# Altium footprint library STB75NF75T4.PcbLib: 1 footprints
Each footprint in its own frame and in the unit in brackets; x right, y up, seen from the top. Pads: shape width x height; smd on the part's side, far side on the other; paste and mask are expansions set on the pad; w line width, h text height; cw(c..) or ccw(c..) is an arc to the next point about the centre after c.
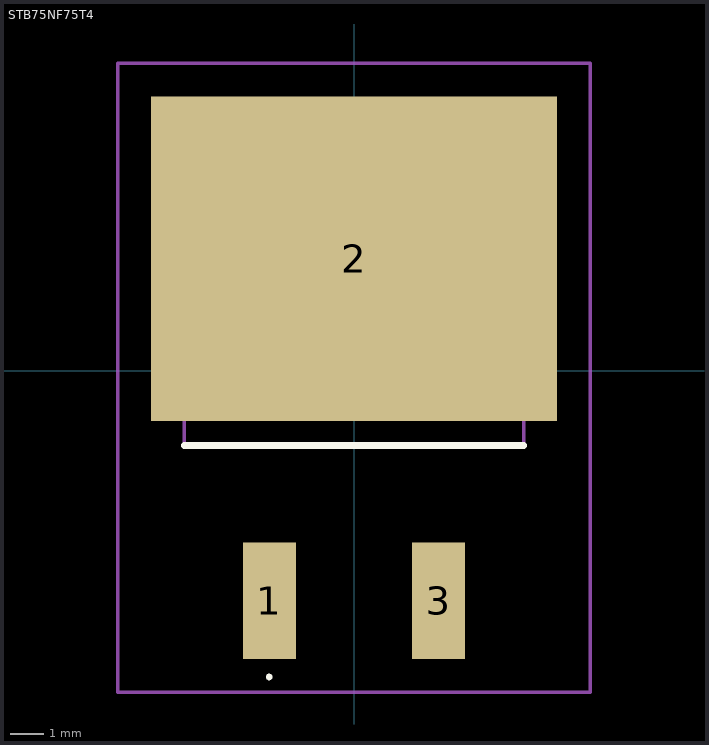
[diagram p0: the footprint, top view; thin cyan lines are the x and y axes]

## STB75NF75T4 [mm]
pads (3):
  rect 1.6x3.5 smd: 1(-2.54,-6.907) 3(2.54,-6.907)
  rect 12.2x9.75 smd: 2(0,3.368)
Top Overlay:
  lines w0.1: -2.6,-9.2 cw(c-2.55,-9.2) -2.5,-9.2 ; -2.6,-9.2 -2.6,-9.2 ; -2.6,-9.2 ccw(c-2.55,-9.2) -2.5,-9.2 ; -2.5,-9.2 -2.5,-9.2
  lines w0.2: -5.1,-2.242 5.1,-2.242
Mechanical 15:
  lines w0.1: -5.1,-2.242 5.1,-2.242 5.1,6.908 -5.1,6.908 -5.1,-2.242
Mechanical 20:
  lines w0.1: -7.1,-9.657 7.1,-9.657 7.1,9.243 -7.1,9.243 -7.1,-9.657